# Altium footprint library Switch.PcbLib: 1 footprints
Each footprint in its own frame and in the unit in brackets; x right, y up, seen from the top. Pads: shape width x height; smd on the part's side, far side on the other; paste and mask are expansions set on the pad; w line width, h text height; cw(c..) or ccw(c..) is an arc to the next point about the centre after c.
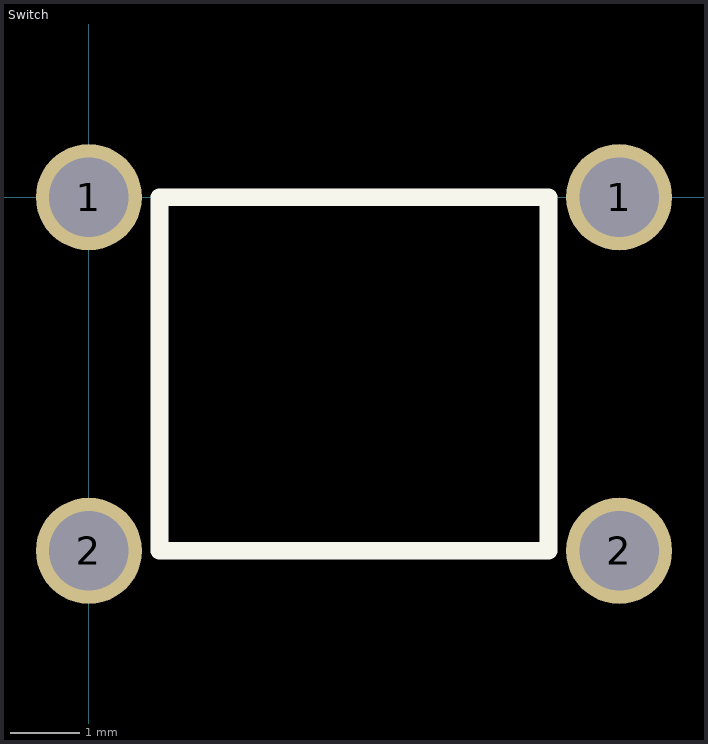
[diagram p0: the footprint, top view; thin cyan lines are the x and y axes]

## Switch [mil]
pads (4):
  round 60 hole 45: 1(0,0) 1(300,0) 2(0,-200) 2(300,-200)
Top Overlay:
  lines w10: 40,-200 260,-200 260,0 40,0 40,-200